# Altium footprint library PcbLib1.PcbLib: 3 footprints
Each footprint in its own frame and in the unit in brackets; x right, y up, seen from the top. Pads: shape width x height; smd on the part's side, far side on the other; paste and mask are expansions set on the pad; w line width, h text height; cw(c..) or ccw(c..) is an arc to the next point about the centre after c.
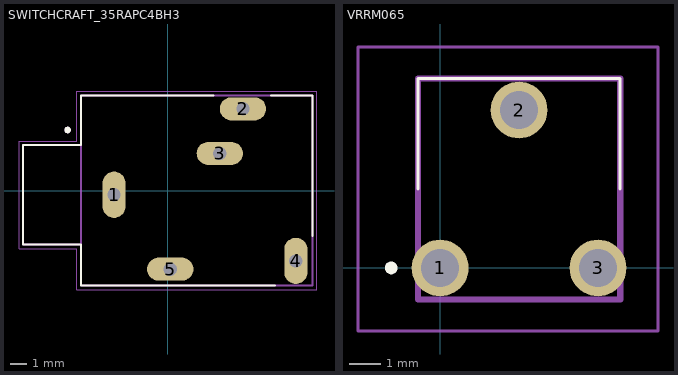
[diagram p0: the footprints below, top view; thin cyan lines are the x and y axes]

## PCBComponent_1 [mm]

## SWITCHCRAFT_35RAPC4BH3 [mm]
pads (5):
  oval 1.4x2.8 hole 0.8 square: 1(-3.25,-0.25) 4(7.75,-4.25)
  oval 2.8x1.4 hole 0.8 square: 2(4.55,4.95) 3(3.15,2.25) 5(0.15,-4.75)
Top Overlay:
  circle w0.2: c-6.057,3.67 r0.1
  lines w0.127: 2.75,5.75 -5.25,5.75 -5.25,2.75 -8.75,2.75 -8.75,-3.25 -5.25,-3.25 -5.25,-5.75 6.5,-5.75 ; 6.25,5.75 8.75,5.75 8.75,-2.75
Mechanical 13:
  circle w0.2: c-6.057,3.67 r0.1
  lines w0.127: -5.25,-3.25 -8.75,-3.25 -8.75,2.75 -5.25,2.75 ; -5.25,-3.25 -5.25,-5.75 8.75,-5.75 8.75,5.75 -5.25,5.75 -5.25,2.75 ; -5.25,-3.25 -5.25,2.75
Mechanical 15:
  lines w0.05: -9,-3.5 -5.5,-3.5 -5.5,-6 9,-6 9,6 -5.5,6 -5.5,3 -9,3 -9,-3.5
3D body "35RAPC4BH3.step": height 6.5, standoff -2, extent -8.509,-5.709 8.991,5.791

## VRRM065 [mm]
pads (3):
  round 1.8 hole 1.2: 1(0,0) 2(2.5,5) 3(5,0)
Top Overlay:
  lines w0.1: -0.7,2.5 -0.7,6 5.7,6 5.7,2.5
  lines w0.3: -1.6,0 cw(c-1.55,0) -1.5,0 cw(c-1.55,0) -1.6,0
Mechanical 15:
  lines w0.2: -0.7,-1 5.7,-1 5.7,6 -0.7,6 -0.7,-1
Mechanical 20:
  lines w0.1: -2.6,-2 6.9,-2 6.9,7 -2.6,7 -2.6,-2
3D body "VR_RM065.stp": height 7.6, standoff -5, extent -0.7,-1 5.7,6